# EAGLE library part ARDUINO_NANO (library Boards)
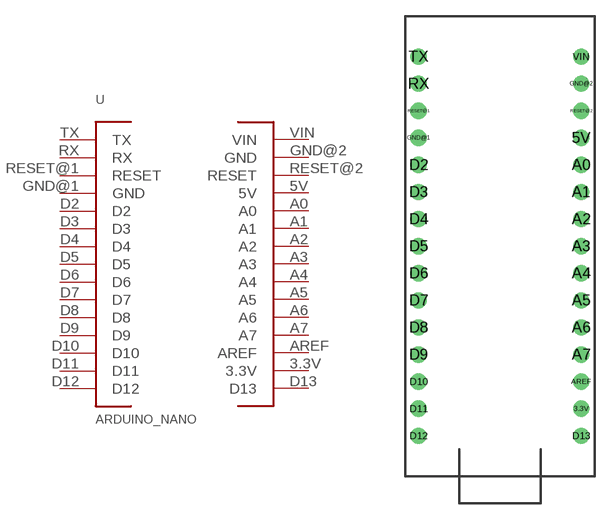
[diagram p9: symbol with the pads of ARDUINO_NANO; footprint ARDUINO_NANO]

Designator prefix -

## ARDUINO_NANO  [ARDUINO_NANO]
3.3V  3.3V  pwr
5V  5V  pwr
A0  A0
A1  A1
A2  A2
A3  A3
A4  A4
A5  A5
A6  A6
A7  A7
AREF  AREF  pwr
D2  D2
D3  D3
D4  D4
D5  D5
D6  D6
D7  D7
D8  D8
D9  D9
D10  D10
D11  D11
D12  D12
D13  D13
GND@1  GND  pwr
GND@2  GND  pwr
RESET@1  RESET
RESET@2  RESET
RX  RX
TX  TX
VIN  VIN  pwr

## Footprint ARDUINO_NANO (pad centres in mm)
drill 1.016: 3.3V 7.62,-16.51; 5V 7.62,8.89; A0 7.62,6.35; A1 7.62,3.81; A2 7.62,1.27; A3 7.62,-1.27; A4 7.62,-3.81; A5 7.62,-6.35; A6 7.62,-8.89; A7 7.62,-11.43; AREF 7.62,-13.97; D2 -7.62,6.35; D3 -7.62,3.81; D4 -7.62,1.27; D5 -7.62,-1.27; D6 -7.62,-3.81; D7 -7.62,-6.35; D8 -7.62,-8.89; D9 -7.62,-11.43; D10 -7.62,-13.97; D11 -7.62,-16.51; D12 -7.62,-19.05; D13 7.62,-19.05; GND@1 -7.62,8.89; GND@2 7.62,13.97; RESET@1 -7.62,11.43; RESET@2 7.62,11.43; RX -7.62,13.97; TX -7.62,16.51; VIN 7.62,16.51